# Altium integrated library SMT172-SOT223.IntLib: 1 symbol
Pins are listed as number, name and electrical type; pins without a type are passive.

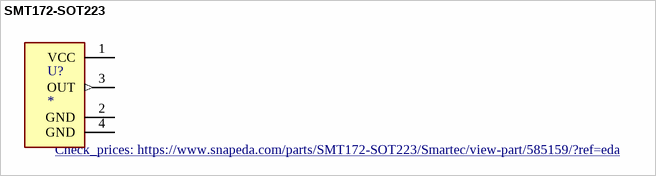
[diagram p0: symbol SMT172-SOT223]

## SMT172-SOT223
designator U?
Temperature sensor [Smartec] SMT172-SOT-223 Temperature sensor; MP: SMT172-SOT223; SnapEDA_Link: https://www.snapeda.com/parts/SMT172-SOT223/Smartec/view-part/585159/?ref=snap; MF: Smartec; Value: *; Availability: Unavailable; Price: None; Package: SOT-223-3 Smartec; Check_prices: https://www.snapeda.com/parts/SMT172-SOT223/Smartec/view-part/585159/?ref=eda
footprint SOT230P700X180-4N
pins: 1 VCC (power), 2 GND (power), 3 OUT (out), 4 GND (power)